# EAGLE library part MICROSDBREAKOUT (library workshop parts)
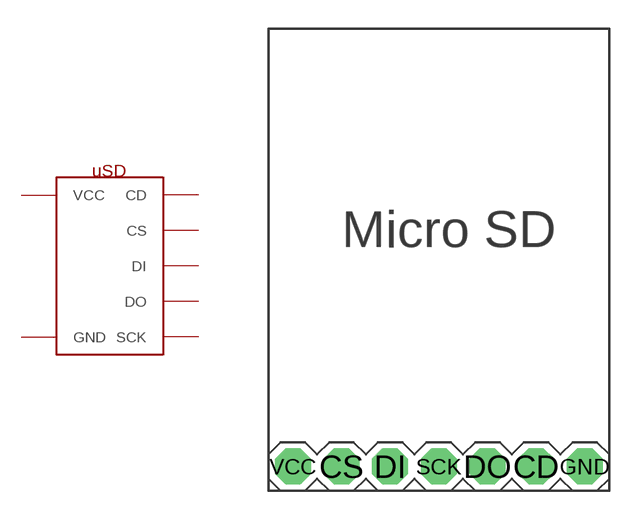
[diagram p0: symbol with the pads of MICROSDBREAKOUT; footprint MICROSDBREAKOUT]

Designator prefix -

## MICROSDBREAKOUT  [MICROSDBREAKOUT]
CD  CD
CS  CS
DI  DI
DO  DO
GND  GND  pwr
SCK  SCK
VCC  VCC  pwr

## Footprint MICROSDBREAKOUT (pad centres in mm)
drill 1.016 pad 1.88 octagon: CD 5.08,-11.43; CS -5.08,-11.43; DI -2.54,-11.43; DO 2.54,-11.43; GND 7.62,-11.43; SCK 0,-11.43; VCC -7.62,-11.43